# EAGLE library part MIC29302WU (library MIC29302WU)
LDO Voltage Regulators 3.0A LDO Adj. + Shutdown Source: Datasheet <https://www.mouser.in/datasheet/2/268/MIC2915x_30x_50x_75x_High_Current_Low_Dropout_Regu-1889172.pdf>
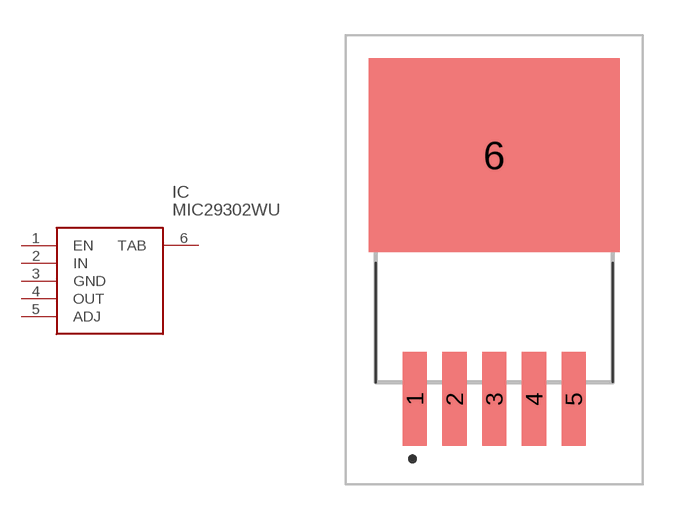
[diagram p0: symbol with the pads of MIC29302WU; footprint MIC29302WU]

Designator prefix IC

## MIC29302WU (Description: LDO Voltage Regulators 3.0A LDO Adj. + Shutdown; Height: 5.08mm; Manufacturer_Name: Microchip; Manufacturer_Part_Number: MIC29302WU; Mouser_Part_Number: 998-MIC29302WU; Mouser_Price-Stock: https://www.mouser.co.uk/ProductDetail/Microchip-Technology/MIC29302WU?qs=kh6iOki%2FeLGH5fS1ZBQ3pA%3D%3D)  [MIC29302WU]
1  EN
2  IN
3  GND
4  OUT
5  ADJ
6  TAB

## Footprint MIC29302WU (pad centres in mm)
MIC29302WU-2
smd 1.041 x 4.039: 1 -3.404,0; 2 -1.702,0; 3 0,0; 4 1.702,0; 5 3.404,0
smd 10.744 x 8.306: 6 0,10.452